# Altium footprint library ECP5_V2.PcbLib: 22 footprints (part 2 of 2)
Each footprint in its own frame and in the unit in brackets; x right, y up, seen from the top. Pads: shape width x height; smd on the part's side, far side on the other; paste and mask are expansions set on the pad; w line width, h text height; cw(c..) or ccw(c..) is an arc to the next point about the centre after c.
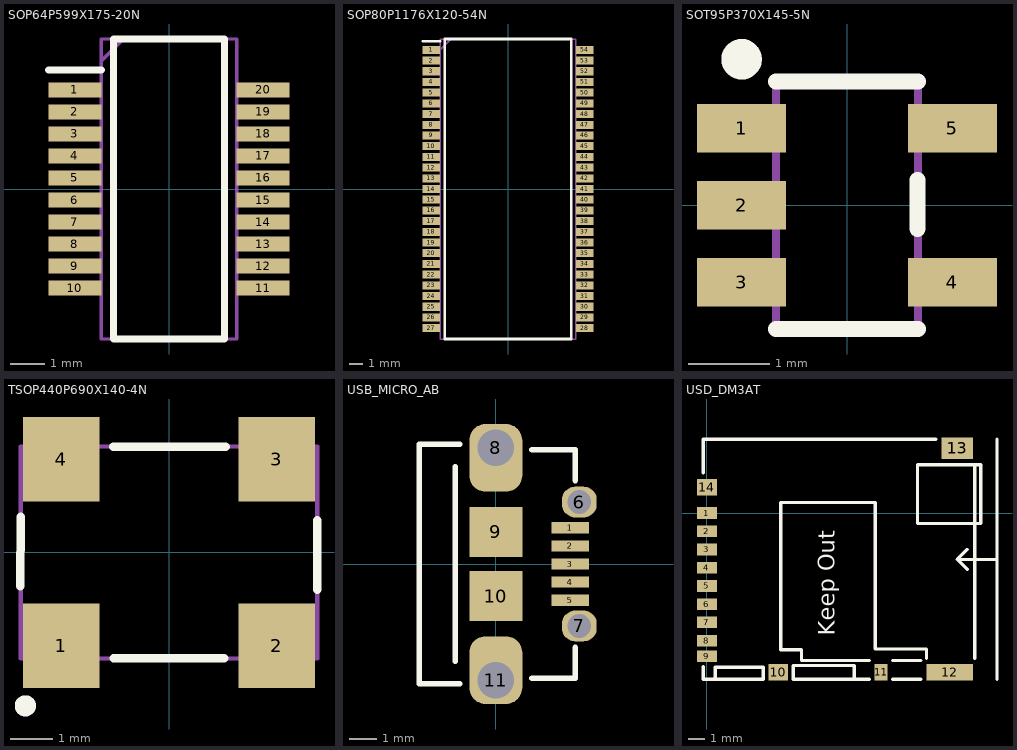
[diagram p1: the footprints below, top view; thin cyan lines are the x and y axes]

## SOP64P599X175-20N [mm]
pads (20):
  rect 1.526x0.435 smd: 1(-2.712,2.858) 2(-2.712,2.222) 3(-2.712,1.588) 4(-2.712,0.952) 5(-2.712,0.318) 6(-2.712,-0.318) 7(-2.712,-0.952) 8(-2.712,-1.588) 9(-2.712,-2.222) 10(-2.712,-2.858) 11(2.712,-2.858) 12(2.712,-2.222) 13(2.712,-1.588) 14(2.712,-0.952) 15(2.712,-0.318) 16(2.712,0.318) 17(2.712,0.952) 18(2.712,1.588) 19(2.712,2.222) 20(2.712,2.858)
Top Overlay:
  lines w0.2: -3.475,3.425 -1.95,3.425 ; -1.6,-4.324 -1.6,4.324 1.6,4.324 1.6,-4.324 -1.6,-4.324
Mechanical 29:
  lines w0.1: -1.95,3.69 -1.314,4.324 ; -1.95,-4.324 -1.95,4.324 1.95,4.324 1.95,-4.324 -1.95,-4.324
  text ".Designator" at 0.29,-1.77 h0.6
3D body "FT231XS-U.stp": height 1.75, standoff 0, extent -2.997,-4.324 2.997,4.324

## SOP80P1176X120-54N [mm]
pads (54):
  rect 1.295x0.6 smd: 1(-5.728,10.4) 2(-5.728,9.6) 3(-5.728,8.8) 4(-5.728,8) 5(-5.728,7.2) 6(-5.728,6.4) 7(-5.728,5.6) 8(-5.728,4.8) 9(-5.728,4) 10(-5.728,3.2) 11(-5.728,2.4) 12(-5.728,1.6) 13(-5.728,0.8) 14(-5.728,0) 15(-5.728,-0.8) 16(-5.728,-1.6) 17(-5.728,-2.4) 18(-5.728,-3.2) 19(-5.728,-4) 20(-5.728,-4.8) 21(-5.728,-5.6) 22(-5.728,-6.4) 23(-5.728,-7.2) 24(-5.728,-8) 25(-5.728,-8.8) 26(-5.728,-9.6) 27(-5.728,-10.4) 28(5.728,-10.4) 29(5.728,-9.6) 30(5.728,-8.8) 31(5.728,-8) 32(5.728,-7.2) 33(5.728,-6.4) 34(5.728,-5.6) 35(5.728,-4.8) 36(5.728,-4) 37(5.728,-3.2) 38(5.728,-2.4) 39(5.728,-1.6) 40(5.728,-0.8) 41(5.728,0) 42(5.728,0.8) 43(5.728,1.6) 44(5.728,2.4) 45(5.728,3.2) 46(5.728,4) 47(5.728,4.8) 48(5.728,5.6) 49(5.728,6.4) 50(5.728,7.2) 51(5.728,8) 52(5.728,8.8) 53(5.728,9.6) 54(5.728,10.4)
Top Overlay:
  lines w0.2: -6.375,11.05 -5.08,11.05 ; -4.73,-11.21 4.73,-11.21 4.73,11.21 -4.73,11.21 -4.73,-11.21
Mechanical 29:
  lines w0.1: -5.08,10.41 -4.28,11.21 ; -5.08,-11.21 5.08,-11.21 5.08,11.21 -5.08,11.21 -5.08,-11.21
  text ".Designator" at 0.15,-0.05 h1.5
3D body "MT48LC16M16A2P-6A_G.stp": height 1.2, standoff 0, extent -5.88,-11.21 5.88,11.21

## SOT95P370X145-5N [mm] "SOT23, 5-Leads, Body 3.05x3.70mm, Pitch 0.95mm, IPC Medium Density"
height 1.45
pads (5):
  rect 1.1x0.6 smd: 1(-1.3,0.95) 2(-1.3,0) 3(-1.3,-0.95) 4(1.3,-0.95) 5(1.3,0.95)
Top Overlay:
  circle w0.25: c-1.3,1.8 r0.125
  lines w0.2: -0.875,-1.525 0.875,-1.525 ; -0.875,1.525 0.875,1.525 ; 0.87,-0.29 0.87,0.31
Mechanical 29:
  lines w0.1: -0.875,-1.525 -0.875,1.525 0.875,1.525 0.875,-1.525 -0.875,-1.525
  text ".Designator" at 0.24,-0.41 h0.6
3D body "CircuitWorks-SOT-23-5.STEP": height 1.11, standoff 0.01, extent -1.24,-1.49 1.26,1.51

## TSOP440P690X140-4N [mm] "TSOP, 4-Leads, Body 5.00x7.00mm, Pitch 4.40mm, IPC Medium Density"
height 1.4
pads (4):
  rect 1.8x2 smd: 1(-2.54,-2.2) 2(2.54,-2.2) 3(2.54,2.2) 4(-2.54,2.2)
Top Overlay:
  circle w0.25: c-3.39,-3.62 r0.125
  lines w0.2: -3.51,-0.8 -3.5,0.84 ; -1.32,2.5 1.34,2.5 ; -1.31,-2.5 1.3,-2.5 ; 3.5,-0.88 3.5,0.76
Mechanical 29:
  circle w0.1: c-2.68,-1.8 r0.5
  lines w0.1: -3.5,-2.5 3.5,-2.5 3.5,2.5 -3.5,2.5 -3.5,-2.5
  text ".Designator" at -0.1,-0.09 h1
3D body: height 1.4, standoff 0, extent -3.5,-2.5 3.5,2.5

## USB_MICRO_AB [mm]
pads (11):
  rect 1.35x0.4 smd mask+0.025: 1(2.675,1.3) 2(2.675,0.65) 3(2.675,0) 4(2.675,-0.65) 5(2.675,-1.3)
  rrect84% 1.25x1.1 hole 0.85 mask+0.04: 6(3,2.225) 7(3,-2.225)
  rrect60% 1.9x2.425 hole 1.3 copper offset 0,-0.363: 8(0,4.175)
  rect 1.9x1.8 smd paste-10: 9(0,1.15) 10(0,-1.15)
  rrect60% 1.9x2.425 hole 1.3 copper offset 0,0.363: 11(0,-4.175)
Top Overlay:
  lines w0.2: -1.45,-3.5 -1.45,3.5 ; -1.3,-4.3 -2.75,-4.3 -2.75,4.3 -1.3,4.3 ; 1.3,-4.1 2.85,-4.1 2.85,-3 ; 1.3,4.1 2.85,4.1 2.85,3
Mechanical 29:
  text ".Designator" at 1.2,-1.9 h1.52
3D body "475890001.stp": height 2.76, standoff -0.58, extent -2.75,-4.325 3.045,4.325

## USD_DM3AT [mm]
pads (14):
  rect 1.2x0.7 smd: 1(0,0) 2(0,-1.1) 3(0,-2.2) 4(0,-3.3) 5(0,-4.4) 6(0,-5.5) 7(0,-6.6)
  rect 1.2x0.7 smd mask+0.07: 8(0,-7.7) 9(0,-8.65)
  rect 1.2x1 smd: 10(4.3,-9.6) 14(0,1.55)
  rect 0.8x1 smd: 11(10.5,-9.6)
  rect 2.8x1 smd: 12(14.65,-9.6)
  rect 1.9x1.3 smd: 13(15.1,3.9)
Top Overlay:
  lines w0.2: -0.231,-9.271 -0.231,-10.033 3.4,-10.033 ; -0.231,2.413 -0.231,4.445 13.8,4.445 ; 0.5,-10.033 0.5,-9.3 3.4,-9.3 3.4,-10.004 ; 8.89,-10.033 8.89,-9.21 8.89,-9.2 5.2,-9.2 5.2,-10.033 9.8,-10.033 ; 9.8,-8.9 5.7,-8.9 5.7,-8.255 4.445,-8.255 4.445,0.635 10.16,0.635 10.16,-8.2 13.245,-8.2 13.245,-8.755 ; 11.2,-10.033 12.9,-10.033 ; 11.2,-8.9 12.9,-8.9 ; 15.7,-3.4 15.1,-2.8 ; 15.7,-2.2 15.1,-2.8 ; 16.152,-8.763 16.152,2.921 ; 17.45,-2.8 15.1,-2.8 ; 17.495,-10.033 17.495,4.445 ; 12.7,-0.635 12.7,2.921 16.51,2.921 16.51,-0.635 12.7,-0.635
  text "Keep Out" at 7.7,-7.4 h1
Mechanical 29:
  text ".Designator" at 8.5,-4.8 h1.52
3D body "DM3AT-SF-PEJM5.stp": height 1.68, standoff 0, extent -0.1,-9.7 16.05,4.15